# Altium schematic symbol library SCH - LDO - TPS7A30.SCHLIB: 1 symbol
Pins are listed as number, name and electrical type; pins without a type are passive.

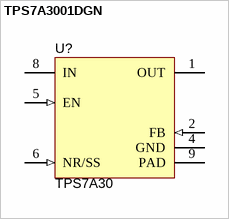
[diagram p0: symbol TPS7A3001DGN]

## TPS7A3001DGN
designator U?, comment TPS7A30
-36V, -200mA, Ultralow-Noise, High PSRR, Adjustable -1.18 to -33 V Output, Negative Linear Regulator, 8-pin MSOP (DGN), -40 to 125 degC, Green (RoHS & no Sb/Br); MPN: TPS7A3001DGN; MF: Texas Instruments; Parameter 1: Farnell; PackageReference: DGN0008D; PackageDescription: 8-pin Plastic Small Outline, Body 3 x 3 mm, Pitch 0.65 mm; Supplier 1: Digi-Key; Supplier Part Number 1: 296-27750-1-ND; ComponentLink1Description: Manufacturer URL; ComponentLink1URL: http://www.ti.com/; ComponentLink2Description: Datasheet; ComponentLink2URL: http://www.ti.com/general/docs/lit/getliterature.tsp?genericPartNumber=TPS7A3001&fileType=pdf; ComponentLink3Description: Package Specification; ComponentLink3URL: http://www.ti.com/litv/pdf/mpds046e; Supplier 2: Mouser; Supplier Part Number 2: 595-TPS7A3001DGNT; Supplier Part Number 3: 3122632
footprint DGN0008D_N
footprint DGN0008D_L (SOIC, 8-Leads, Body 3x3mm, Pitch 0.65mm, Thermal Pad 1.76x1.425mm, IPC High Density)
footprint DGN0008D_M (SOIC, 8-Leads, Body 3x3mm, Pitch 0.65mm, Thermal Pad 1.76x1.425mm, IPC Low Density)
pins: 1 OUT (power) "Regulator output. A capacitor>=2.2 uF must be tied from this pin to ground to assure stability.", 2 FB (in) "This pin is the input to the control-loop error amplifier. It is used to set the output voltage of the device.", 3 NC hidden "Not internally connected. This pin must either be left open or tied to GND.", 4 GND (power) "Ground", 5 EN (in) "This pin turns the regulator on or off. If VEN>= V+EN_HI or VEN=< V-EN_HI, the regulator is enabled. If V+EN_LO>=VEN>= V-EN_LO, the regulator is disabled. The EN pin can be connected to IN, if not used. |VEN|=< |VIN|.", 6 NR/SS (in) "Noise reduction pin. Connecting an external capacitor to this pin bypasses noise generated by the internal bandgap. This capacitor allows RMS noise to be reduced to very low levels and also controls the soft-start function.", 7 DNC hidden "DO NOT CONNECT. Do not route this pin to any electrical net, not even GND or IN.", 8 IN (power) "Input supply", 9 PAD "Must either be left open or tied to GND. Solder to printed circuit board (PCB) plane to enhance thermal performance"